# Altium schematic symbol library SCH - RF - AMPLIFIER - QORVO QPL9547.SchLib: 1 symbol
Pins are listed as number, name and electrical type; pins without a type are passive.

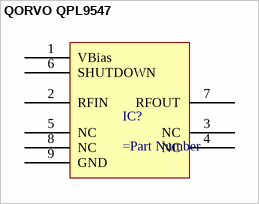
[diagram p0: symbol QORVO QPL9547]

## QORVO QPL9547
designator IC?
pins: 1 VBias, 2 RFIN, 3 NC, 4 NC, 5 NC, 6 SHUTDOWN, 7 RFOUT, 8 NC, 9 GND